# Altium footprint library Enero_HEADERS.PcbLib: 17 footprints (part 1 of 2)
Each footprint in its own frame and in the unit in brackets; x right, y up, seen from the top. Pads: shape width x height; smd on the part's side, far side on the other; paste and mask are expansions set on the pad; w line width, h text height; cw(c..) or ccw(c..) is an arc to the next point about the centre after c.
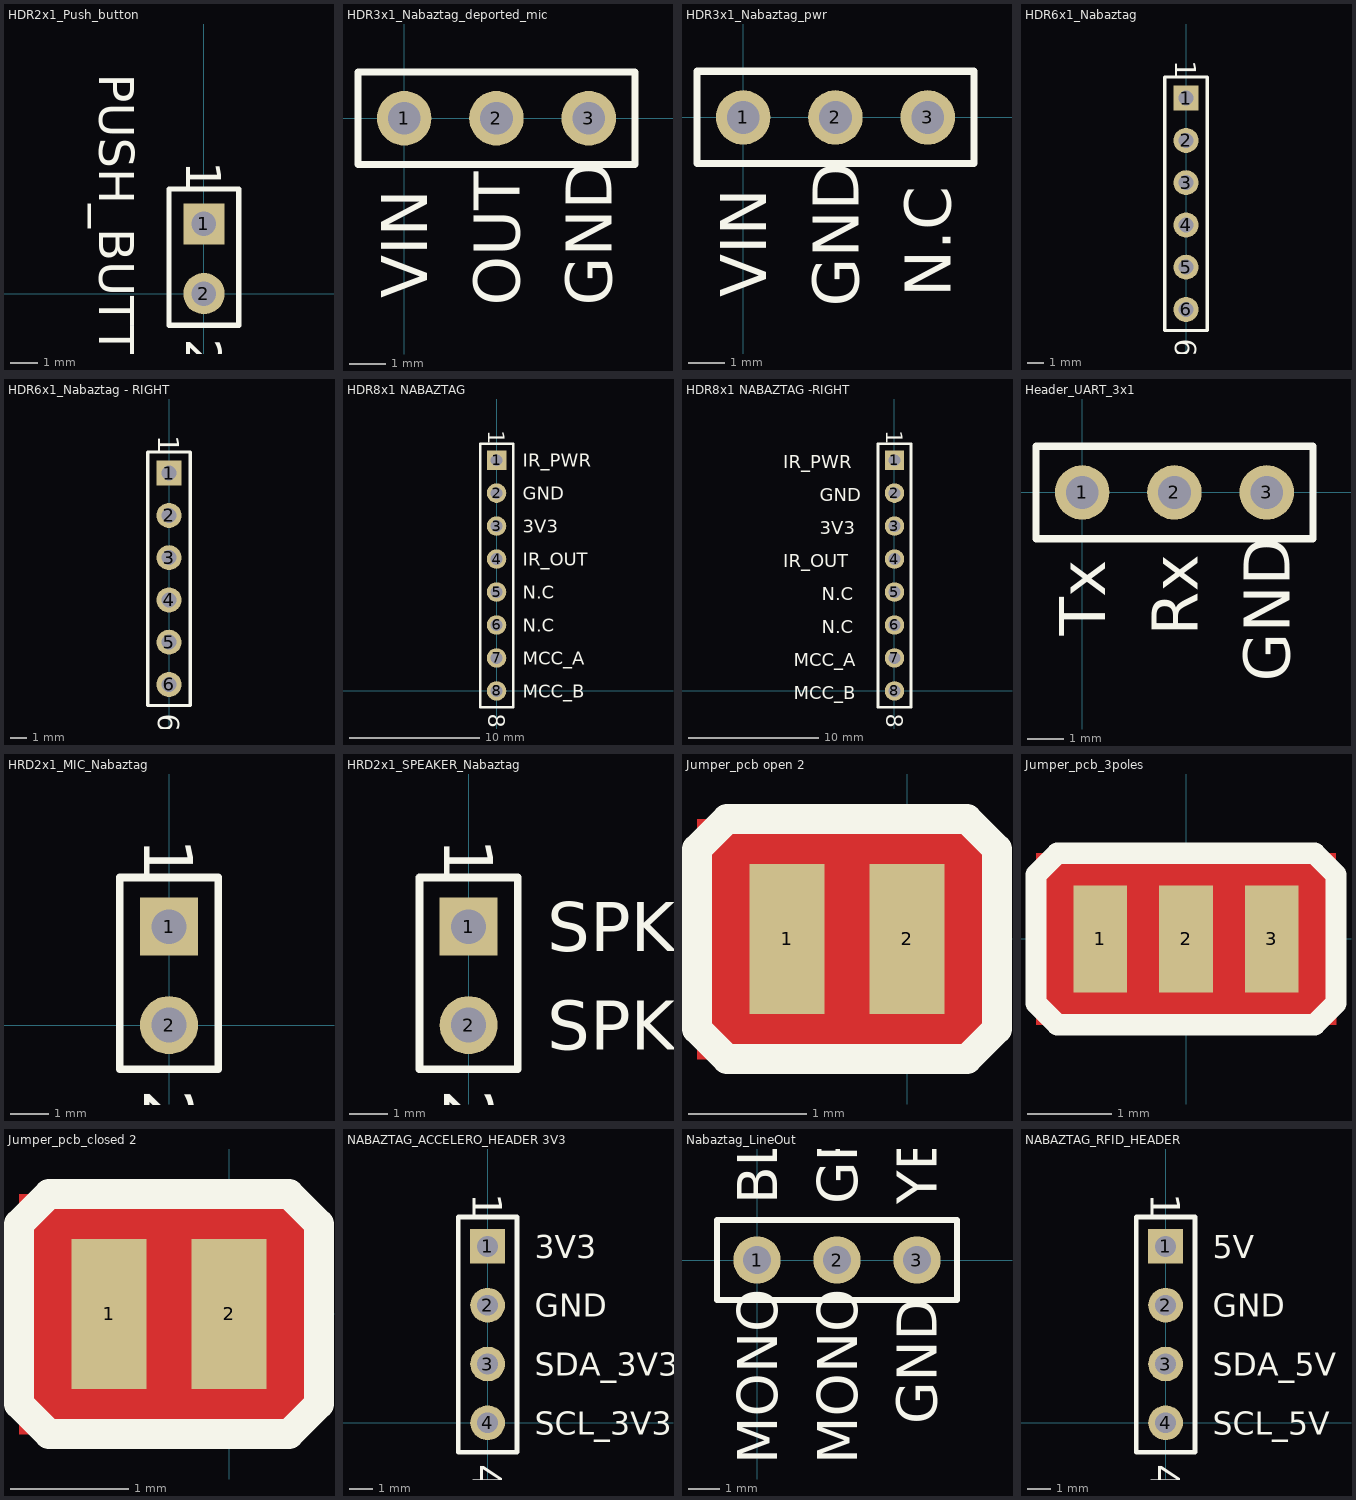
[diagram p0: the footprints below, top view; thin cyan lines are the x and y axes]

## HDR2x1_Push_button [mm]
pads (2):
  rect 1.5x1.5 hole 0.9: 1(0,2.54)
  round 1.5 hole 0.9: 2(0,0)
Top Overlay:
  lines w0.2: -1.27,-1.143 -1.27,3.81 1.27,3.81 1.27,-1.143 -1.27,-1.143
  text "1" at -0.635,4.826 h1.27
  text "2" at -0.635,-1.651 h1.27
  text "PUSH_BUTTON" at -3.81,8.001 h1.27

## HDR3x1_Nabaztag_deported_mic [mm]
pads (3):
  round 1.5 hole 0.9: 1(0,0) 2(2.54,0) 3(5.08,0)
Top Overlay:
  lines w0.2: -1.27,-1.27 6.35,-1.27 6.35,1.27 -1.27,1.27 -1.27,-1.27
  text "GND" at 5.715,-5.165 h1.27
  text "OUT" at 3.175,-5.165 h1.27
  text "VIN" at 0.635,-4.953 h1.27

## HDR3x1_Nabaztag_pwr [mm]
pads (3):
  round 1.5 hole 0.9: 1(0,0) 2(2.54,0) 3(5.08,0)
Top Overlay:
  lines w0.2: -1.27,-1.27 6.35,-1.27 6.35,1.27 -1.27,1.27 -1.27,-1.27
  text "GND" at 3.175,-5.207 h1.27
  text "N.C" at 5.715,-4.953 h1.27
  text "VIN" at 0.635,-4.953 h1.27

## HDR6x1_Nabaztag [mm]
pads (6):
  rect 1.5x1.5 hole 0.9: 1(0,17.78)
  round 1.5 hole 0.9: 2(0,15.24) 3(0,12.7) 4(0,10.16) 5(0,7.62) 6(0,5.08)
Top Overlay:
  lines w0.2: -1.27,3.81 -1.27,19.05 1.27,19.05 1.27,3.81 -1.27,3.81
  text "1" at -0.635,20.066 h1.27
  text "6" at -0.635,3.302 h1.27

## HDR6x1_Nabaztag - RIGHT [mm]
pads (6):
  rect 1.5x1.5 hole 0.9: 1(0,17.78)
  round 1.5 hole 0.9: 2(0,15.24) 3(0,12.7) 4(0,10.16) 5(0,7.62) 6(0,5.08)
Top Overlay:
  lines w0.2: -1.27,3.81 -1.27,19.05 1.27,19.05 1.27,3.81 -1.27,3.81
  text "1" at -0.635,20.066 h1.27
  text "6" at -0.635,3.302 h1.27

## HDR8x1 NABAZTAG [mm]
pads (8):
  rect 1.5x1.5 hole 0.9: 1(0,17.78)
  round 1.5 hole 0.9: 2(0,15.24) 3(0,12.7) 4(0,10.16) 5(0,7.62) 6(0,5.08) 7(0,2.54) 8(0,0)
Top Overlay:
  lines w0.2: -1.27,-1.27 -1.27,19.05 1.27,19.05 1.27,-1.27 -1.27,-1.27
  text "MCC_A" at 2.032,2.032 h1
  text "N.C" at 2.032,4.572 h1
  text "1" at -0.635,20.066 h1.27
  text "8" at -0.635,-1.778 h1.27
  text "MCC_B" at 2.032,-0.508 h1
  text "N.C" at 2.032,7.112 h1
  text "IR_OUT" at 2.032,9.652 h1
  text "3V3" at 2.032,12.192 h1
  text "GND" at 2.032,14.732 h1
  text "IR_PWR" at 2.032,17.272 h1

## HDR8x1 NABAZTAG -RIGHT [mm]
pads (8):
  rect 1.5x1.5 hole 0.9: 1(0,17.78)
  round 1.5 hole 0.9: 2(0,15.24) 3(0,12.7) 4(0,10.16) 5(0,7.62) 6(0,5.08) 7(0,2.54) 8(0,0)
Top Overlay:
  lines w0.2: -1.27,-1.27 -1.27,19.05 1.27,19.05 1.27,-1.27 -1.27,-1.27
  text "1" at -0.635,20.066 h1.27
  text "8" at -0.635,-1.778 h1.27
  text "IR_PWR" at -8.587,17.145 h1
  text "GND" at -5.755,14.605 h1
  text "3V3" at -5.755,12.065 h1
  text "IR_OUT" at -8.587,9.525 h1
  text "MCC_A" at -7.754,1.905 h1
  text "N.C" at -5.588,4.445 h1
  text "N.C" at -5.588,6.985 h1
  text "MCC_B" at -7.754,-0.635 h1

## Header_UART_3x1 [mm] "Header_UART_3x1"
pads (3):
  round 1.5 hole 0.9: 1(0,0) 2(2.54,0) 3(5.08,0)
Top Overlay:
  lines w0.2: -1.27,-1.27 6.35,-1.27 6.35,1.27 -1.27,1.27 -1.27,-1.27
  text "GND" at 5.715,-5.207 h1.27
  text "Rx" at 3.175,-3.937 h1.27
  text "Tx" at 0.635,-3.937 h1.27

## HRD2x1_MIC_Nabaztag [mm]
pads (2):
  rect 1.5x1.5 hole 0.9: 1(0,2.54)
  round 1.5 hole 0.9: 2(0,0)
Top Overlay:
  lines w0.2: -1.27,-1.143 1.27,-1.143 1.27,3.81 -1.27,3.81 -1.27,-1.143
  text "2" at -0.635,-1.651 h1.27
  text "1" at -0.635,4.826 h1.27

## HRD2x1_SPEAKER_Nabaztag [mm]
pads (2):
  rect 1.5x1.5 hole 0.9: 1(0,12.7)
  round 1.5 hole 0.9: 2(0,10.16)
Top Overlay:
  lines w0.2: -1.27,9.017 1.27,9.017 1.27,13.97 -1.27,13.97 -1.27,9.017
  text "SPK_1" at 2.032,12.065 h1.27
  text "SPK_2" at 2.032,9.525 h1.27
  text "2" at -0.635,8.509 h1.27
  text "1" at -0.635,14.986 h1.27

## Jumper_pcb open 2 [mil] "Jumper_pcb_open"
pads (2):
  rect 25x50 smd paste+0: 1(-40,0) 2(0,0)
Top Layer:
  pour cut-out: -70,40 -70,-40 25,-40 25,40
  pour cut-out: 0,0
Top Overlay:
  lines w10: -70,-30 -60,-40 20,-40 30,-30 30,30 20,40 -60,40 -70,30 -70,-30
Mechanical 7:
  lines w8: 10,-40 ccw(c10,-22) 28,-22 28,22 ccw(c10,22) 10,40 ; 20,-40 -50,-40 cw(c-50,-22) -68,-22 -68,22 cw(c-50,22) -50,40 20,40

## Jumper_pcb_3poles [mil] "Jumper_pcb_3poles"
pads (3):
  rect 25x50 smd paste+0: 1(-40,0) 2(0,0) 3(40,0)
Top Layer:
  pour cut-out: -70,40 -70,-40 70,-40 70,40
  pour cut-out: 0,0
  region: 12,-5 12,5 28,5 28,-5
Top Overlay:
  lines w10: -70,-30 -60,-40 60,-40 70,-30 70,30 60,40 -60,40 -70,30 -70,-30
Top Solder:
  region: 12.5,5 27.5,5 27.5,-5 12.5,-5
Mechanical 7:
  lines w8: -68,-22 ccw(c-50,-22) -50,-40 50,-40 ccw(c50,-22) 68,-22 68,22 ccw(c50,22) 50,40 -50,40 ccw(c-50,22) -68,22 -68,-22

## Jumper_pcb_closed 2 [mil] "Jumper_pcb_open"
pads (2):
  rect 25x50 smd paste+0: 1(-40,0) 2(0,0)
Top Layer:
  pour cut-out: -70,40 -70,-40 25,-40 25,40
  pour cut-out: 0,0
  region: -28,-5 -28,5 -12,5 -12,-5
Top Overlay:
  lines w10: -70,-30 -60,-40 20,-40 30,-30 30,30 20,40 -60,40 -70,30 -70,-30
Top Solder:
  region: -27.5,5 -12.5,5 -12.5,-5 -27.5,-5
  region: -27.5,5 -12.5,5 -12.5,-5 -27.5,-5
Mechanical 7:
  lines w8: 10,-40 ccw(c10,-22) 28,-22 28,22 ccw(c10,22) 10,40 ; 20,-40 -50,-40 cw(c-50,-22) -68,-22 -68,22 cw(c-50,22) -50,40 20,40

## NABAZTAG_ACCELERO_HEADER 3V3 [mm]
pads (4):
  rect 1.5x1.5 hole 0.9: 1(0,7.62)
  round 1.5 hole 0.9: 2(0,5.08) 3(0,2.54) 4(0,0)
Top Overlay:
  lines w0.2: -1.27,-1.27 -1.27,8.89 1.27,8.89 1.27,-1.27 -1.27,-1.27
  text "1" at -0.635,9.906 h1.27
  text "4" at -0.635,-1.778 h1.27
  text "SCL_3V3" at 2.032,-0.508 h1
  text "SDA_3V3" at 2.032,2.032 h1
  text "GND" at 2.032,4.572 h1
  text "3V3" at 2.032,7.112 h1

## Nabaztag_LineOut [mm]
pads (3):
  round 1.5 hole 0.9: 1(0,0) 2(2.54,0) 3(5.08,0)
Top Overlay:
  lines w0.2: -1.27,-1.27 -1.27,1.27 6.35,1.27 6.35,-1.27 -1.27,-1.27
  text "GREEN" at 3.175,1.778 h1.27
  text "YELLOW" at 5.715,1.778 h1.27
  text "BLUE" at 0.635,1.778 h1.27
  text "MONO" at 0.635,-6.477 h1.27
  text "GND" at 5.715,-5.207 h1.27
  text "MONO" at 3.175,-6.477 h1.27

## NABAZTAG_RFID_HEADER [mm]
pads (4):
  rect 1.5x1.5 hole 0.9: 1(0,7.62)
  round 1.5 hole 0.9: 2(0,5.08) 3(0,2.54) 4(0,0)
Top Overlay:
  lines w0.2: -1.27,-1.27 1.27,-1.27 1.27,8.89 -1.27,8.89 -1.27,-1.27
  text "5V" at 2.032,7.112 h1
  text "GND" at 2.032,4.572 h1
  text "SDA_5V" at 2.032,2.032 h1
  text "SCL_5V" at 2.032,-0.508 h1
  text "4" at -0.635,-1.778 h1.27
  text "1" at -0.635,9.906 h1.27